# EAGLE library part 61002413321 (library Board-to-Board (rev18a))
WR-PHD 2.54mm SMT Socket Header, 24 Pins =>Code : CON_BTB_SHD_2.54_1_SMT_61002413321 <http://katalog.we-online.de/media/images/eican/Con_BTB_SHD_2.54_1_SMT_6100xx11921_pf2.jpg> Details see: http://katalog.we-online.de/en/em/PHD_2_54_SMT_SOCKET_HEADER_6100XXXXX21 Created 2014-05-30, Karrer Zheng 2014 (C) Würth Elektronik
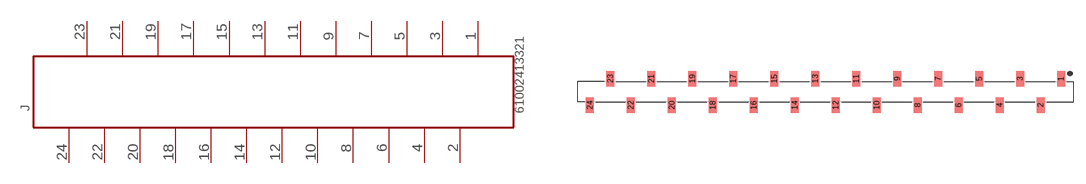
[diagram p200: symbol with the pads of 61002413321; footprint 61002413321]

Designator prefix J

## 61002413321  [61002413321]
1  24  pas
2  23  pas
3  22  pas
4  21  pas
5  20  pas
6  19  pas
7  18  pas
8  17  pas
9  16  pas
10  15  pas
11  14  pas
12  13  pas
13  12  pas
14  11  pas
15  10  pas
16  9  pas
17  8  pas
18  7  pas
19  6  pas
20  5  pas
21  4  pas
22  3  pas
23  2  pas
24  1  pas

## Footprint 61002413321 (pad centres in mm)
WR-PHD 2.54mm SMT Socket Header, 24 Pins
smd 1 x 1.91: 1 29.21,1.645; 2 26.67,-1.645; 3 24.13,1.645; 4 21.59,-1.645; 5 19.05,1.645; 6 16.51,-1.645; 7 13.97,1.645; 8 11.43,-1.645; 9 8.89,1.645; 10 6.35,-1.645; 11 3.81,1.645; 12 1.27,-1.645; 13 -1.27,1.645; 14 -3.81,-1.645; 15 -6.35,1.645; 16 -8.89,-1.645; 17 -11.43,1.645; 18 -13.97,-1.645; 19 -16.51,1.645; 20 -19.05,-1.645; 21 -21.59,1.645; 22 -24.13,-1.645; 23 -26.67,1.645; 24 -29.21,-1.645